# Altium footprint library WLCSP-25.PcbLib: 1 footprints
Each footprint in its own frame and in the unit in brackets; x right, y up, seen from the top. Pads: shape width x height; smd on the part's side, far side on the other; paste and mask are expansions set on the pad; w line width, h text height; cw(c..) or ccw(c..) is an arc to the next point about the centre after c.
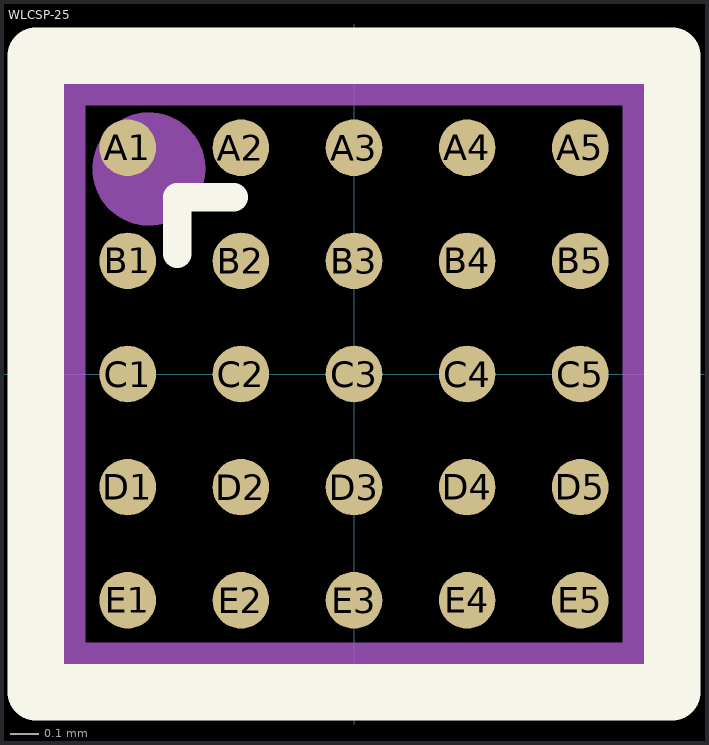
[diagram p0: the footprint, top view; thin cyan lines are the x and y axes]

## WLCSP-25 [mm]
pads (25):
  round 0.2 smd mask+0.005: A1(-0.8,0.8) A2(-0.4,0.8) A3(0,0.8) A4(0.4,0.8) A5(0.8,0.8) B1(-0.8,0.4) B2(-0.4,0.4) B3(0,0.4) B4(0.4,0.4) B5(0.8,0.4) C1(-0.8,0) C2(-0.4,0) C3(0,0) C4(0.4,0) C5(0.8,0) D1(-0.8,-0.4) D2(-0.4,-0.4) D3(0,-0.4) D4(0.4,-0.4) D5(0.8,-0.4) E1(-0.8,-0.8) E2(-0.4,-0.8) E3(0,-0.8) E4(0.4,-0.8) E5(0.8,-0.8)
Top Overlay:
  lines w0.1: -0.625,0.425 -0.625,0.625 -0.425,0.625
  lines w0.2: -1.125,-1.125 -1.125,1.125 1.125,1.125 1.125,-1.125 -1.125,-1.125
Top Assembly:
  circle w0.2: c-0.725,0.725 r0.1
  lines w0.1: -1,-1 -1,1 1,1 1,-1 -1,-1
  text "'.Designator'" at 0,0 h0.7
3D body "WLCSP25.stp": height 0.6, standoff 0, extent -1.05,-1 1.05,1